# EAGLE library part BQ24650 (library PowerComponents)
TI LiPo charger with MPPT
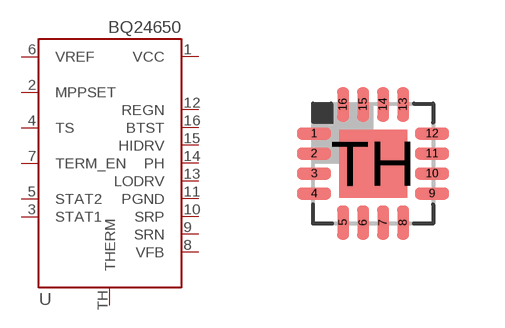
[diagram p0: symbol with the pads of QFN16; footprint QFN16]

Designator prefix U

## BQ24650  [QFN16]
1  VCC
2  MPPSET
3  STAT1
4  TS
5  STAT2
6  VREF
7  TERM_EN
8  VFB
9  SRN
10  SRP
11  PGND
12  REGN
13  LODRV
14  PH
15  HIDRV
16  BTST
TH  THERM

## Footprint QFN16 (pad centres in mm)
RTE (S-PQFP-N16) 3x3 mm Source: www.ti.com .. tpa6132a2 direct path stereo $.65.pdf
smd 0.85 x 0.3: 1 -1.475,0.75; 2 -1.475,0.25; 3 -1.475,-0.25; 4 -1.475,-0.75; 9 1.475,-0.75; 10 1.475,-0.25; 11 1.475,0.25; 12 1.475,0.75
smd 0.3 x 0.85: 5 -0.75,-1.475; 6 -0.25,-1.475; 7 0.25,-1.475; 8 0.75,-1.475; 13 0.75,1.475; 14 0.25,1.475; 15 -0.25,1.475; 16 -0.75,1.475
smd 1.7 x 1.7: TH 0,0